# Altium footprint library WL-SBRW.PcbLib: 2 footprints
Each footprint in its own frame and in the unit in brackets; x right, y up, seen from the top. Pads: shape width x height; smd on the part's side, far side on the other; paste and mask are expansions set on the pad; w line width, h text height; cw(c..) or ccw(c..) is an arc to the next point about the centre after c.
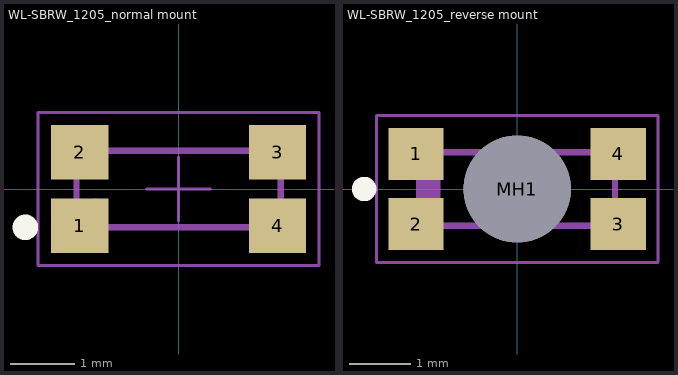
[diagram p0: the footprints below, top view; thin cyan lines are the x and y axes]

## WL-SBRW_1205_normal mount [mm] "SMD Bi-color Reverse mount Waterclear, body 3.2x1.2mm"
height 0.8
pads (4):
  rect 0.9x0.85 smd: 1(-1.55,-0.575) 2(-1.55,0.575) 3(1.55,0.575) 4(1.55,-0.575)
Top Overlay:
  circle w0.2: c-2.4,-0.6 r0.1
Top Designator:
  text ".Designator" at -3.499,-0.233 h0.7
Top Component Outline:
  circle w0.1: c-1.3,-0.3 r0.1
  lines w0.1: -1.6,-0.6 1.6,-0.6 1.6,0.6 -1.6,0.6 -1.6,-0.6
Top Courtyard:
  lines w0.05: -0.5,0 0.5,0 ; 0,-0.5 0,0.5 ; -2.2,-1.2 2.2,-1.2 2.2,1.2 -2.2,1.2 -2.2,-1.2
3D body "156125RB173000.stp": height 0.8, standoff 0, extent -1.6,-0.6 1.6,0.6

## WL-SBRW_1205_reverse mount [mm] "SMD Bi-color Reverse mount Waterclear, body 3.2x1.2mm"
height 0.28
pads (5):
  rect 0.9x0.85 smd: 1(-1.65,0.575) 2(-1.65,-0.575) 3(1.65,-0.575) 4(1.65,0.575)
  round 1.75 hole 1.75 unplated: MH1(0,0)
Top Overlay:
  circle w0.2: c-2.5,0 r0.1
Top Designator:
  text ".Designator" at -3.499,-0.233 h0.7
Top Component Outline:
  rectangle: -1.6,-0.6 -1.25,0.6
  lines w0.1: -1.6,-0.6 -1.6,0.6 1.6,0.6 1.6,-0.6 -1.6,-0.6
Top Courtyard:
  lines w0.05: -0.5,0 0.5,0 ; 0,-0.5 0,0.5 ; -2.3,-1.2 2.3,-1.2 2.3,1.2 -2.3,1.2 -2.3,-1.2
3D body "156125RB173000.stp": height 0.28, standoff -0.52, extent -1.6,-0.6 1.6,0.6